# Altium footprint library Connector.PcbLib: 53 footprints (part 4 of 4)
Each footprint in its own frame and in the unit in brackets; x right, y up, seen from the top. Pads: shape width x height; smd on the part's side, far side on the other; paste and mask are expansions set on the pad; w line width, h text height; cw(c..) or ccw(c..) is an arc to the next point about the centre after c.
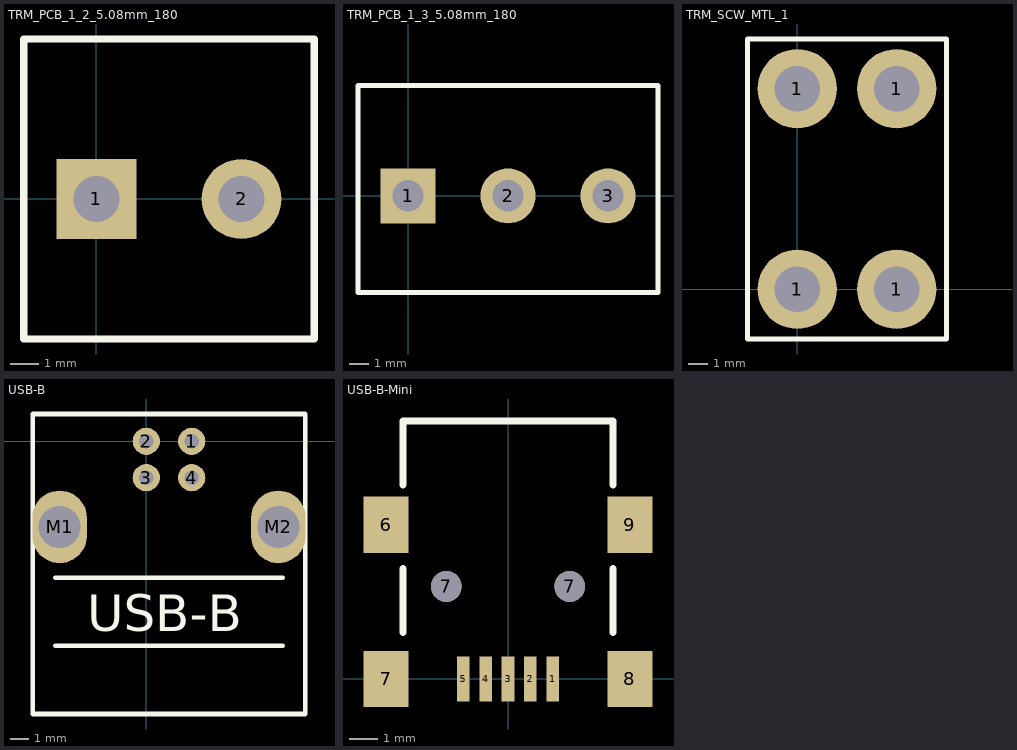
[diagram p3: the footprints below, top view; thin cyan lines are the x and y axes]

## TRM_PCB_1_2_5.08mm_180 [mm]
height 14
pads (2):
  rect 2.8x2.8 hole 1.6: 1(0,0)
  round 2.8 hole 1.6: 2(5.08,0)
Top Overlay:
  lines w0.254: -2.54,-4.9 7.62,-4.9 7.62,5.6 -2.54,5.6 -2.54,-4.9
3D body "Wire-To-Board Terminal Block, 5.08 mm, 2 Positions, 30 AWG.stp": height 15.2, standoff -3.5, extent -2.54,-4.445 8.12,4.555

## TRM_PCB_1_3_5.08mm_180 [mm]
height 14
pads (3):
  rect 2.8x2.8 hole 1.6: 1(0,0)
  round 2.8 hole 1.6: 2(5.08,0) 3(10.16,0)
Top Overlay:
  lines w0.254: -2.54,-4.9 -2.54,5.6 12.7,5.6 12.7,-4.9 -2.54,-4.9
3D body "Wire-To-Board Terminal Block, 5.08 mm, 3 Positions, 30 AWG.stp": height 15.2, standoff -3.5, extent -2.54,-4.445 13.2,4.555

## TRM_SCW_MTL_1 [mm] "5.00mm Bariyer Tip Vidali Konnektör"
height 8.5
pads (4):
  round 4 hole 2.3: 1(0,0) 1(0,10.1) 1(5,0) 1(5,10.1)
Top Overlay:
  lines w0.254: -2.5,-2.5 -2.5,12.6 7.5,12.6 7.5,-2.5 -2.5,-2.5
3D body "Keystone_7693.STEP": height 10.86, standoff -2.44, extent -1.46,0.508 6.54,9.633

## USB-B [mm]
pads (6):
  round 1.5 hole 0.8: 1(2.5,0) 2(0,0) 3(0,-2) 4(2.5,-2)
  oval 3x4 hole 2.3: M1(-4.77,-4.71) M2(7.27,-4.71)
Top Overlay:
  lines w0.254: -5,-11.25 7.5,-11.25 ; -5,-7.5 7.5,-7.5 ; -6.25,-15 -6.25,1.5 8.75,1.5 8.75,-15 -6.25,-15
  text "USB-B" at -3.25,-10.452 h2
3D body "User Library-Samtec - USB-B-S-X-W-TH.STEP": height 12, standoff -2.64, extent -6.15,-14.95 8.649,1.55

## USB-B-Mini [mm]
pads (11):
  rect 0.45x1.6 smd: 1(1.6,0) 2(0.8,0) 3(0,0) 4(-0.8,0) 5(-1.6,0)
  rect 1.6x2 smd: 6(-4.35,5.5) 7(-4.35,0) 8(4.35,0) 9(4.35,5.5)
  round 1.1 hole 1.1 unplated: 7(-2.2,3.3) 7(2.2,3.3)
Top Overlay:
  lines w0.254: -3.75,1.655 -3.75,3.937 ; -3.75,6.918 -3.75,9.2 3.75,9.2 3.75,6.918 ; 3.75,1.655 3.75,3.937
3D body "usb_a-usb_b-m5-smd-c.stp": height 3.93, standoff -1, extent -4.944,-0.725 4.956,8.525